# Altium schematic symbol library Schlib1.SchLib: 1 symbol
Pins are listed as number, name and electrical type; pins without a type are passive.

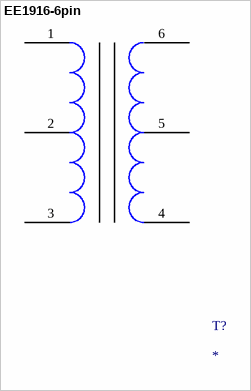
[diagram p0: symbol EE1916-6pin]

## EE1916-6pin
designator T?
footprint PCBComponent_1
pins: 1, 2, 3, 4, 5, 6